# Altium footprint library L9958SBTR.PcbLib: 1 footprints
Each footprint in its own frame and in the unit in brackets; x right, y up, seen from the top. Pads: shape width x height; smd on the part's side, far side on the other; paste and mask are expansions set on the pad; w line width, h text height; cw(c..) or ccw(c..) is an arc to the next point about the centre after c.
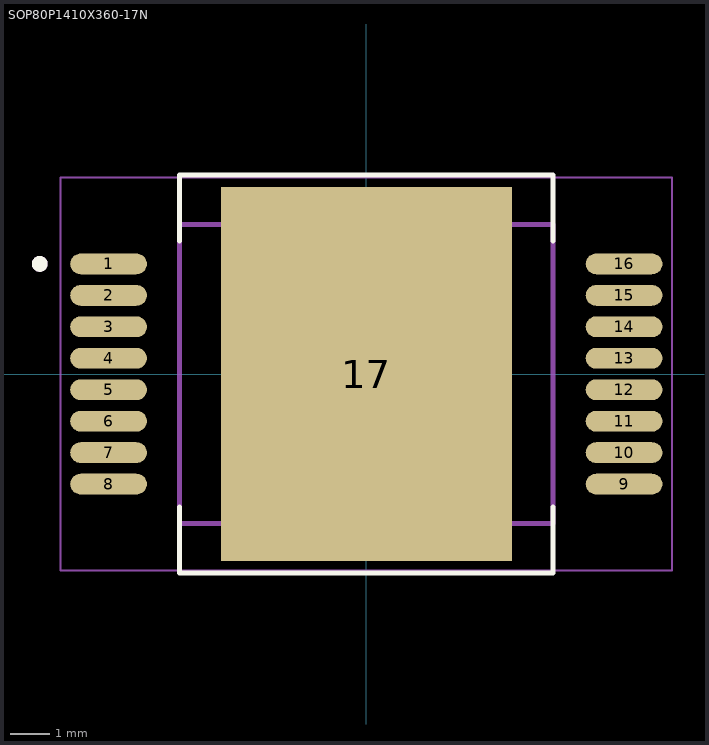
[diagram p0: the footprint, top view; thin cyan lines are the x and y axes]

## SOP80P1410X360-17N [mm]
pads (17):
  oval 1.95x0.53 smd: 1(-6.555,2.8) 2(-6.555,2) 3(-6.555,1.2) 4(-6.555,0.4) 5(-6.555,-0.4) 6(-6.555,-1.2) 7(-6.555,-2) 8(-6.555,-2.8) 9(6.555,-2.8) 10(6.555,-2) 11(6.555,-1.2) 12(6.555,-0.4) 13(6.555,0.4) 14(6.555,1.2) 15(6.555,2) 16(6.555,2.8)
  rect 7.4x9.5 smd paste-6: 17(0,0)
Top Overlay:
  circle w0.2: c-8.305,2.8 r0.1
  lines w0.127: -4.75,-3.379 -4.75,-5.064 4.75,-5.064 4.75,-3.379 ; -4.75,3.379 -4.75,5.064 4.75,5.064 4.75,3.379
Top Paste:
  region: 3.3,-4.505 1.64,-4.505 1.64,-3.095 3.3,-3.095
  region: -1.64,-4.505 -3.3,-4.505 -3.3,-3.095 -1.64,-3.095
  region: 0.83,-4.505 -0.83,-4.505 -0.83,-3.095 0.83,-3.095
  region: 3.3,-2.605 1.64,-2.605 1.64,-1.195 3.3,-1.195
  region: -1.64,-2.605 -3.3,-2.605 -3.3,-1.195 -1.64,-1.195
  region: 0.83,-2.605 -0.83,-2.605 -0.83,-1.195 0.83,-1.195
  region: 3.3,3.095 1.64,3.095 1.64,4.505 3.3,4.505
  region: -1.64,3.095 -3.3,3.095 -3.3,4.505 -1.64,4.505
  region: 0.83,3.095 -0.83,3.095 -0.83,4.505 0.83,4.505
  region: 3.3,-0.705 1.64,-0.705 1.64,0.705 3.3,0.705
  region: 3.3,1.195 1.64,1.195 1.64,2.605 3.3,2.605
  region: -1.64,-0.705 -3.3,-0.705 -3.3,0.705 -1.64,0.705
  region: -1.64,1.195 -3.3,1.195 -3.3,2.605 -1.64,2.605
  region: 0.83,-0.705 -0.83,-0.705 -0.83,0.705 0.83,0.705
  region: 0.83,1.195 -0.83,1.195 -0.83,2.605 0.83,2.605
Mechanical 13:
  circle w0.2: c-8.305,2.8 r0.1
  lines w0.127: -4.75,-3.8 4.75,-3.8 4.75,3.8 -4.75,3.8 -4.75,-3.8
Mechanical 15:
  lines w0.05: -7.78,-5 7.78,-5 7.78,5 -7.78,5 -7.78,-5